# Altium footprint library Mypcb.PcbLib: 144 footprints (part 3 of 9)
Each footprint in its own frame and in the unit in brackets; x right, y up, seen from the top. Pads: shape width x height; smd on the part's side, far side on the other; paste and mask are expansions set on the pad; w line width, h text height; cw(c..) or ccw(c..) is an arc to the next point about the centre after c.
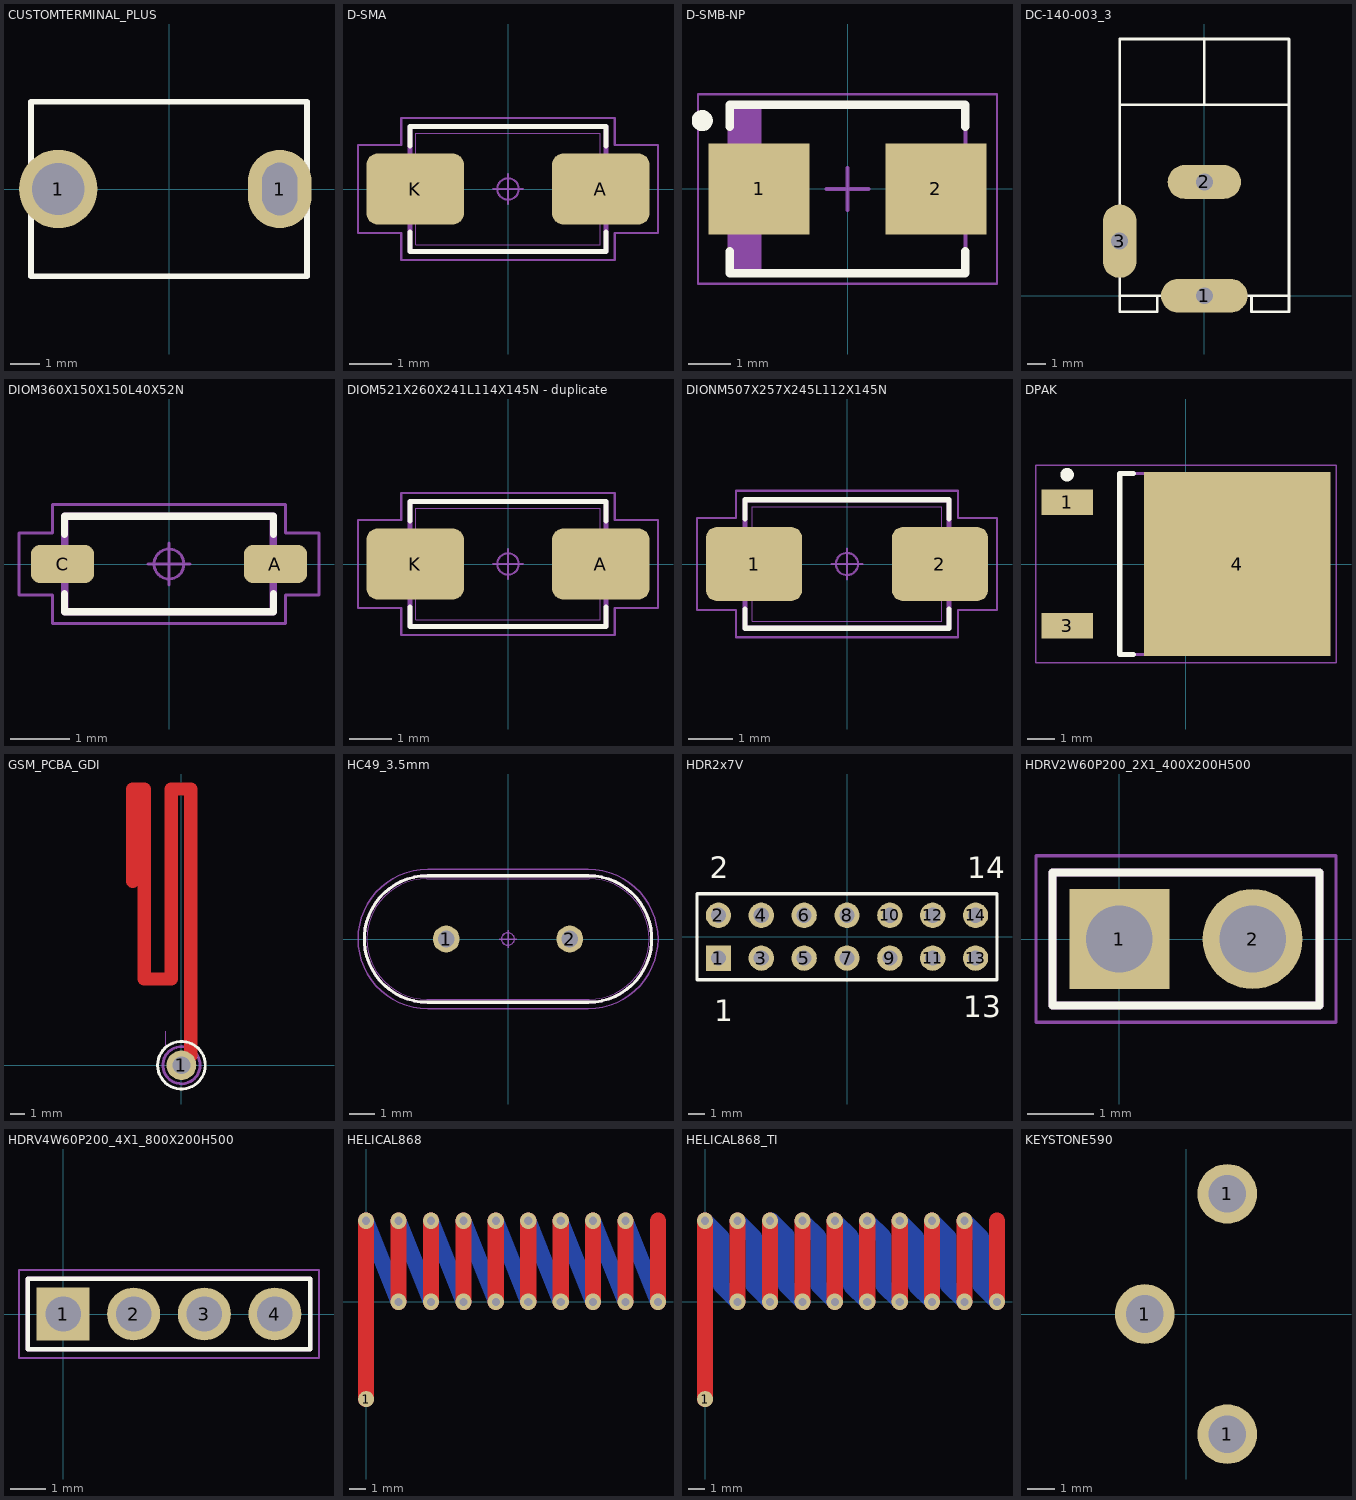
[diagram p2: the footprints below, top view; thin cyan lines are the x and y axes]

## CUSTOMTERMINAL_PLUS [mm] "For CR123 battery (\"+\")"
pads (2):
  round 2.7 hole 1.8: 1(-3.81,0)
  oval 2.2x2.7 hole 1.2 slot 1.8 at 90 deg: 1(3.81,0)
Top Overlay:
  lines w0.2: -4.75,-3 4.75,-3 4.75,3 -4.75,3 -4.75,-3
3D body "17-222-0603_contact.STEP": height 18.03, standoff -4.2, extent -6,-8.785 4,8.785

## D-SMA [mm] "Diode, Molded Body; 4.315 mm L X 2.605 mm W X 2.41 mm H body"
height 2.41
pads (2):
  rrect30% 2.27x1.65 smd: A(2.165,0) K(-2.165,0)
Top Overlay:
  lines w0.12: -2.29,-1.005 -2.29,-1.46 2.29,-1.46 2.29,-1.005 ; -2.29,1.005 -2.29,1.46 2.29,1.46 2.29,1.005
Mechanical 11:
  lines w0.12: -2.29,-1.46 2.29,-1.46 2.29,1.46 -2.29,1.46 -2.29,-1.46
Mechanical 12:
  lines w0.025: -2.605,-0.725 -2.605,0.725 -1.465,0.725 -1.465,-0.725 -2.605,-0.725 ; -2.157,-1.302 2.157,-1.302 2.157,1.302 -2.157,1.302 -2.157,-1.302 ; 1.465,-0.725 2.605,-0.725 2.605,0.725 1.465,0.725 1.465,-0.725
Mechanical 15:
  circle w0.05: c0,0 r0.25
  lines w0.05: -0.35,0 0.35,0 ; 0,-0.35 0,0.35 ; -3.5,-1.025 -2.49,-1.025 -2.49,-1.66 2.49,-1.66 2.49,-1.025 3.5,-1.025 3.5,1.025 2.49,1.025 2.49,1.66 -2.49,1.66 -2.49,1.025 -3.5,1.025 -3.5,-1.025
3D body "DIOM521X260X241L114X145.STEP": height 2.41, standoff 0, extent -2.605,-1.302 2.605,1.302

## D-SMB-NP [mm] "Molded Diode, 2-Leads, Body 5,35x3,63mm, IPC Medium Density"
height 2.65
pads (2):
  rect 2.4x2.15 smd: 1(-2.1,0) 2(2.1,0)
Top Overlay:
  circle w0.25: c-3.45,1.625 r0.125
  lines w0.2: -2.8,-1.475 -2.8,-2 2.8,-2 2.8,-1.475 ; -2.8,1.475 -2.8,2 2.8,2 2.8,1.475
Mechanical 13:
  rectangle: -2.8,-1.975 -2.047,1.975
  lines w0.1: -2.8,-1.975 -2.8,1.975 2.8,1.975 2.8,-1.975 -2.8,-1.975
Mechanical 15:
  lines w0.05: -3.55,-2.25 -3.55,2.25 3.55,2.25 3.55,-2.25 -3.55,-2.25
  lines w0.1: -0.5,0 0.5,0 ; 0,-0.5 0,0.5
3D body "DIOM5336X26N.step": height 2.65, standoff 0, extent -3.02,-1.975 3.02,1.975

## DC-140-003_3 [mm]
pads (3):
  oval 4.6x1.8 hole 0.9: 1(0,0)
  oval 3.9x1.8 hole 0.9: 2(0,6.05)
  oval 1.8x3.9 hole 0.9: 3(-4.5,2.9)
Top Overlay:
  lines w0.15: -4.5,10.15 4.475,10.15 ; -2.5,0 -2.5,-0.85 -4.5,-0.85 -4.5,0 ; 0,10.15 0,13.65 ; 2.5,0 2.5,-0.85 4.5,-0.85 4.5,0 ; -4.5,0 4.5,0 ; -4.5,0 -4.5,13.65 4.5,13.65 4.5,0
Mechanical 16:
  lines w0.05: -4.95,1.85 ccw(c-4.5,1.85) -4.05,1.85 -4.05,3.95 ccw(c-4.5,3.95) -4.95,3.95 -4.95,1.85 ; -1.3,-0.45 cw(c-1.3,0) -1.3,0.45 1.3,0.45 cw(c1.3,0) 1.3,-0.45 -1.3,-0.45 ; -1.05,5.6 cw(c-1.05,6.05) -1.05,6.5 1.05,6.5 cw(c1.05,6.05) 1.05,5.6 -1.05,5.6
3D body "CUI_PJ-102A.STEP": height 11, standoff -3.5, extent -5,-0.8 4.4,13.6

## DIOM360X150X150L40X52N [mm] "Diode, Molded Body; 3.40 mm L X 1.50 mm W X 1.50 mm H body"
height 1.5
pads (2):
  rrect50% 1.06x0.64 smd: A(1.785,0) C(-1.785,0)
Top Overlay:
  lines w0.12: -1.75,-0.5 -1.75,-0.8 1.75,-0.8 1.75,-0.5 ; -1.75,0.5 -1.75,0.8 1.75,0.8 1.75,0.5
Mechanical 11:
  lines w0.12: -1.75,-0.8 -1.75,0.8 1.75,0.8 1.75,-0.8 -1.75,-0.8
Mechanical 12:
  lines w0.025: -1.8,-0.262 -1.4,-0.262 -1.4,0.262 -1.8,0.262 -1.8,-0.262 ; -1.7,-0.75 -1.7,0.75 1.7,0.75 1.7,-0.75 -1.7,-0.75 ; 1.4,-0.262 1.4,0.262 1.8,0.262 1.8,-0.262 1.4,-0.262
Mechanical 15:
  circle w0.05: c0,0 r0.25
  lines w0.05: -0.35,0 0.35,0 ; 0,-0.35 0,0.35 ; -2.515,-0.52 -2.515,0.52 -1.95,0.52 -1.95,1 1.95,1 1.95,0.52 2.515,0.52 2.515,-0.52 1.95,-0.52 1.95,-1 -1.95,-1 -1.95,-0.52 -2.515,-0.52
Mechanical 16:
  text ".Designator" at 0,0 h1.2
3D body "DIOM360X150X150L40X52.STEP": height 1.5, standoff 0, extent -1.8,-0.75 1.8,0.75

## DIOM521X260X241L114X145N - duplicate [mm] "Diode, Molded Body; 4.315 mm L X 2.605 mm W X 2.41 mm H body"
height 2.41
pads (2):
  rrect30% 2.27x1.65 smd: A(2.165,0) K(-2.165,0)
Top Overlay:
  lines w0.12: -2.29,-1.005 -2.29,-1.46 2.29,-1.46 2.29,-1.005 ; -2.29,1.005 -2.29,1.46 2.29,1.46 2.29,1.005
Mechanical 11:
  lines w0.12: -2.29,-1.46 -2.29,1.46 2.29,1.46 2.29,-1.46 -2.29,-1.46
Mechanical 12:
  lines w0.025: -2.605,-0.725 -1.465,-0.725 -1.465,0.725 -2.605,0.725 -2.605,-0.725 ; -2.157,-1.302 -2.157,1.302 2.157,1.302 2.157,-1.302 -2.157,-1.302 ; 1.465,-0.725 1.465,0.725 2.605,0.725 2.605,-0.725 1.465,-0.725
Mechanical 15:
  circle w0.05: c0,0 r0.25
  lines w0.05: -0.35,0 0.35,0 ; 0,-0.35 0,0.35 ; -3.5,-1.025 -3.5,1.025 -2.49,1.025 -2.49,1.66 2.49,1.66 2.49,1.025 3.5,1.025 3.5,-1.025 2.49,-1.025 2.49,-1.66 -2.49,-1.66 -2.49,-1.025 -3.5,-1.025
3D body "DIOM521X260X241L114X145.STEP": height 2.41, standoff 0, extent -2.605,-1.302 2.605,1.302

## DIONM507X257X245L112X145N [mm] "Diode, Non-Polarized, Molded Body; 4.275 mm L X 2.575 mm W X 2.45 mm H body"
height 2.45
pads (2):
  rrect30% 2.17x1.67 smd: 1(-2.095,0) 2(2.095,0)
Top Overlay:
  lines w0.12: -2.3,-1.015 -2.3,-1.45 2.3,-1.45 2.3,-1.015 ; -2.3,1.015 -2.3,1.45 2.3,1.45 2.3,1.015
Mechanical 11:
  lines w0.12: -2.3,-1.45 -2.3,1.45 2.3,1.45 2.3,-1.45 -2.3,-1.45
Mechanical 12:
  lines w0.025: -2.538,-0.725 -1.412,-0.725 -1.412,0.725 -2.538,0.725 -2.538,-0.725 ; -2.137,-1.288 -2.137,1.288 2.137,1.288 2.137,-1.288 -2.137,-1.288 ; 1.412,-0.725 1.412,0.725 2.538,0.725 2.538,-0.725 1.412,-0.725
Mechanical 15:
  circle w0.05: c0,0 r0.25
  lines w0.05: -0.35,0 0.35,0 ; 0,-0.35 0,0.35 ; -3.38,-1.035 -3.38,1.035 -2.5,1.035 -2.5,1.65 2.5,1.65 2.5,1.035 3.38,1.035 3.38,-1.035 2.5,-1.035 2.5,-1.65 -2.5,-1.65 -2.5,-1.035 -3.38,-1.035
3D body "DIONM507X257X245L112X145.STEP": height 2.45, standoff 0, extent -2.538,-1.288 2.538,1.288

## DPAK [mm] "D-PAK, 3-Pads, Body 6,20x6,72mm (max), IPC Medium Density"
height 2.38
pads (3):
  rect 1.9x0.95 smd: 1(-4.4,2.28) 3(-4.4,-2.28)
  rect 6.9x6.8 smd: 4(1.9,0)
Top Overlay:
  circle w0.25: c-4.4,3.305 r0.125
  lines w0.2: -1.95,-3.35 -2.45,-3.35 -2.45,3.35 -1.95,3.35
Mechanical 13:
  lines w0.1: -2.45,-3.35 -2.45,3.35 3.75,3.35 3.75,-3.35 -2.45,-3.35
Mechanical 15:
  lines w0.05: -5.55,-3.65 -5.55,3.65 5.55,3.65 5.55,-3.65 -5.55,-3.65
  lines w0.1: -0.5,0 0.5,0 ; 0,-0.5 0,0.5
3D body: height 2.38, standoff 0, extent -2.45,-3.35 3.75,3.35

## GSM_PCBA_GDI [mm]
pads (1):
  round 2 hole 1.2 mask+0.102: 1(0,0)
Top Layer:
  lines w0.9: -3.275,12.375 -3.275,18.575 -2.5,18.575 -2.5,12.718 -2.6,12.618 ; -2.5,8.918 -2.5,7.932 -2.5,5.8 -0.675,5.8 -0.675,18.575 0.625,18.575 0.625,0.625 0,0 ; -2.5,8.5 -2.5,12.5
Top Overlay:
  circle w0.2: c0,0 r1.6
Mechanical 1:
  lines w0: -1.075,2.3 -1.05,2.275 -1.05,1.075
Mechanical 13:
  circle w0.2: c0,0 r1.25
  circle w0.1: c-0.025,-0.05 r0.645
3D body: height 0.01, standoff 0, extent -1.245,-1.247 1.245,1.248

## HC49_3.5mm [mm] "Crystal, HC-49; 4.88 mm C X 0.43 mm W 11.175 mm L X 4.75 mm T X 3.50 mm H body"
height 3.5
pads (2):
  round 1.06 hole 0.66 paste-1.06: 1(-2.44,0) 2(2.44,0)
Top Overlay:
  lines w0.12: -3.18,-2.5 cw(c-3.18,0) -3.18,2.5 3.18,2.5 cw(c3.18,0) 3.18,-2.5 -3.18,-2.5
Mechanical 11:
  lines w0.12: -3.18,-2.5 cw(c-3.18,0) -3.18,2.5 3.18,2.5 cw(c3.18,0) 3.18,-2.5 -3.18,-2.5
Mechanical 12:
  circle w0.025: c2.44,0 r0.23
  circle w0.025: c-2.44,0 r0.23
  lines w0.025: -3.213,-2.375 cw(c-3.213,0) -3.213,2.375 3.213,2.375 cw(c3.213,0) 3.213,-2.375 -3.213,-2.375
Mechanical 15:
  circle w0.05: c0,0 r0.25
  lines w0.05: -0.35,0 0.35,0 ; 0,-0.35 0,0.35 ; -3.18,-2.75 cw(c-3.18,0) -3.18,2.75 3.18,2.75 cw(c3.18,0) 3.18,-2.75 -3.18,-2.75
Mechanical 16:
  text ".Designator" at 0,0 h1.2
3D body "XTAL_HC49P488W43L1117T475H350.STEP": height 3.5, standoff -2, extent -5.587,-2.375 5.587,2.375

## HDR2x7V [mm]
pads (14):
  rect 1.5x1.5 hole 0.9: 1(-7.62,-1.27)
  round 1.5 hole 0.9: 2(-7.62,1.27) 3(-5.08,-1.27) 4(-5.08,1.27) 5(-2.54,-1.27) 6(-2.54,1.27) 7(0,-1.27) 8(0,1.27) 9(2.54,-1.27) 10(2.54,1.27) 11(5.08,-1.27) 12(5.08,1.27) 13(7.62,-1.27) 14(7.62,1.27)
Top Overlay:
  lines w0.2: -8.89,-2.54 -8.89,2.54 8.89,2.54 8.89,-2.54 -8.89,-2.54
  text "2" at -8.12,3.48 h1.27
  text "1" at -7.87,-5.02 h1.27
  text "14" at 7.13,3.48 h1.27
  text "13" at 6.88,-4.77 h1.27
3D body "DS1021-2x7SF11.stp": height 8.6, standoff -3, extent -8.89,-2.5 8.89,2.5

## HDRV2W60P200_2X1_400X200H500 [mm] "Header, Vertical, 2.00 mm pitch; 0.60 mm lead width, 2 pins, 1 row, 2 pins per row, 4.00 mm L X 2.00 mm W X 5.00 mm H body"
height 5
pads (2):
  rect 1.5x1.5 hole 1 paste-1.5: 1(0,0)
  round 1.5 hole 1 paste-1.5: 2(2,0)
Top Overlay:
  lines w0.12: -1,-1 -1,1 3,1 3,-1 -1,-1
Mechanical 11:
  lines w0.12: -1,-1 -1,1 3,1 3,-1 -1,-1
Mechanical 12:
  lines w0.025: -1,-1 -1,1 3,1 3,-1 -1,-1 ; -0.3,-0.3 -0.3,0.3 0.3,0.3 0.3,-0.3 -0.3,-0.3 ; 1.7,-0.3 1.7,0.3 2.3,0.3 2.3,-0.3 1.7,-0.3
Mechanical 15:
  circle w0.05: c0,0 r0.25
  lines w0.05: -0.35,0 0.35,0 ; 0,-0.35 0,0.35 ; -1.25,-1.25 -1.25,1.25 3.25,1.25 3.25,-1.25 -1.25,-1.25
3D body "HDRV2W60P200_2X1_400X200H500.STEP": height 5, standoff -2.3, extent -1,-1 3,1

## HDRV4W60P200_4X1_800X200H500 [mm] "Header, Vertical, 2.00 mm pitch; 0.60 mm lead width, 4 pins, 1 row, 4 pins per row, 8.00 mm L X 2.00 mm W X 5.00 mm H body"
height 5
pads (4):
  rect 1.5x1.5 hole 1 paste-1.5: 1(0,0)
  round 1.5 hole 1 paste-1.5: 2(2,0) 3(4,0) 4(6,0)
Top Overlay:
  lines w0.12: -1,-1 -1,1 7,1 7,-1 -1,-1
Mechanical 11:
  lines w0.12: -1,-1 -1,1 7,1 7,-1 -1,-1
Mechanical 12:
  lines w0.025: -1,-1 -1,1 7,1 7,-1 -1,-1 ; -0.3,-0.3 -0.3,0.3 0.3,0.3 0.3,-0.3 -0.3,-0.3 ; 1.7,-0.3 1.7,0.3 2.3,0.3 2.3,-0.3 1.7,-0.3 ; 3.7,-0.3 3.7,0.3 4.3,0.3 4.3,-0.3 3.7,-0.3 ; 5.7,-0.3 5.7,0.3 6.3,0.3 6.3,-0.3 5.7,-0.3
Mechanical 15:
  circle w0.05: c0,0 r0.25
  lines w0.05: -0.35,0 0.35,0 ; 0,-0.35 0,0.35 ; -1.25,-1.25 -1.25,1.25 7.25,1.25 7.25,-1.25 -1.25,-1.25
Mechanical 16:
  text ".Designator" at 0,0 h1.2
3D body "HDRV4W60P200_4X1_800X200H500.STEP": height 5, standoff -2.3, extent -1,-1 7,1

## HELICAL868 [mm]
pads (1):
  round 1 smd: 1(0,-6)
via 0,5 diameter 1 hole 0.5
via 2,5 diameter 1 hole 0.5
via 4,5 diameter 1 hole 0.5
via 6,5 diameter 1 hole 0.5
via 8,5 diameter 1 hole 0.5
via 10,5 diameter 1 hole 0.5
via 12,5 diameter 1 hole 0.5
via 14,5 diameter 1 hole 0.5
via 16,5 diameter 1 hole 0.5
via 2,0 diameter 1 hole 0.5
via 4,0 diameter 1 hole 0.5
via 6,0 diameter 1 hole 0.5
via 8,0 diameter 1 hole 0.5
via 10,0 diameter 1 hole 0.5
via 12,0 diameter 1 hole 0.5
via 14,0 diameter 1 hole 0.5
via 16,0 diameter 1 hole 0.5
via 18,0 diameter 1 hole 0.5
Top Layer:
  lines w1: 0,-6 0,5 ; 2,0 2,5 ; 4,0 4,5 ; 6,0 6,5 ; 8,0 8,5 ; 10,0 10,5 ; 12,0 12,5 ; 14,0 14,5 ; 16,0 16,5 ; 18,0 18,5
Bottom Layer:
  lines w1: 0,5 2,0 ; 2,5 4,0 ; 4,5 6,0 ; 6,5 8,0 ; 8,5 10,0 ; 10,5 12,0 ; 12,5 14,0 ; 14,5 16,0 ; 16,5 18,0

## HELICAL868_TI [mm]
pads (1):
  round 1 smd: 1(0,-6)
via 0,5 diameter 1 hole 0.5
via 2,5 diameter 1 hole 0.5
via 4,5 diameter 1 hole 0.5
via 6,5 diameter 1 hole 0.5
via 8,5 diameter 1 hole 0.5
via 10,5 diameter 1 hole 0.5
via 12,5 diameter 1 hole 0.5
via 14,5 diameter 1 hole 0.5
via 16,5 diameter 1 hole 0.5
via 2,0 diameter 1 hole 0.5
via 4,0 diameter 1 hole 0.5
via 6,0 diameter 1 hole 0.5
via 8,0 diameter 1 hole 0.5
via 10,0 diameter 1 hole 0.5
via 12,0 diameter 1 hole 0.5
via 14,0 diameter 1 hole 0.5
via 16,0 diameter 1 hole 0.5
via 18,0 diameter 1 hole 0.5
Top Layer:
  lines w1: 0,-6 0,5 ; 2,0 2,5 ; 4,0 4,5 ; 6,0 6,5 ; 8,0 8,5 ; 10,0 10,5 ; 12,0 12,5 ; 14,0 14,5 ; 16,0 16,5 ; 18,0 18,5
Bottom Layer:
  lines w1: 0,5 1,4 1,1 2,0 ; 4,0 3,1 3,4 2,5 ; 4,5 4.1,5 5,4.1 5,1 6,0 ; 6,5 7,4 7,1 8,0 ; 8,5 9,4 9,1 10,0 ; 10,5 11,4 11,1 12,0 ; 14,0 13,1 13,4 12,5 ; 14,5 15,4 15,1 16,0 ; 18,0 17,1 17,4 16,5 ; 2,5 2,5 ; 12,5 12,5 ; 16,5 16,5

## KEYSTONE590 [mm]
pads (3):
  round 2.2 hole 1.4 mask+0.1: 1(-1.525,0) 1(1.525,-4.445) 1(1.525,4.445)
3D body "keystone-PN590.STEP": height 12.72, standoff -3.89, extent -5.704,-5.37 4.704,5.25